# Altium schematic symbol library 2929SQ-391GEC.SchLib: 1 symbol
Pins are listed as number, name and electrical type; pins without a type are passive.

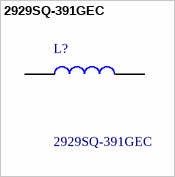
[diagram p0: symbol 2929SQ-391GEC]

## 2929SQ-391GEC
designator L?
Fixed Inductors 2929 390nH Unshld 2% 4.4A 14.5mOhms; Manufacturer_Name: COILCRAFT; Geometry.Height: 7.494mm; Mouser Part Number: 994-2929SQ-391GEC; Mouser Price/Stock: https://www.mouser.co.uk/ProductDetail/Coilcraft/2929SQ-391GEC?qs=zCSbvcPd3pZ4jWAdj%252BjX1w%3D%3D; Manufacturer_Part_Number: 2929SQ-391GEC; Datasheet Link: https://www.coilcraft.com/getmedia/a4eed406-a97e-4630-9d8e-771bb470867f/1515sq.pdf
footprint 2929SQ391GEC
pins: 1, 2